# EAGLE library part HT66F002 (library pimoroni-ics)
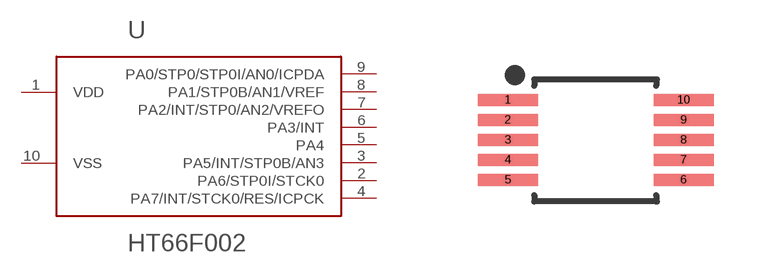
[diagram p63: symbol with the pads of MSOP-10; footprint MSOP-10]

Designator prefix U

## HT66F002  [MSOP-10]
1  VDD
2  PA6/STP0I/STCK0
3  PA5/INT/STP0B/AN3
4  PA7/INT/STCK0/RES/ICPCK
5  PA4
6  PA3/INT
7  PA2/INT/STP0/AN2/VREFO
8  PA1/STP0B/AN1/VREF
9  PA0/STP0/STP0I/AN0/ICPDA
10  VSS

## Footprint MSOP-10 (pad centres in mm)
smd 1.5 x 0.3: 1 -2.225,1.009; 2 -2.225,0.509; 3 -2.225,0.009; 4 -2.225,-0.491; 5 -2.225,-0.991; 6 2.175,-0.991; 7 2.175,-0.491; 8 2.175,0.009; 9 2.175,0.509; 10 2.175,1.009